# Altium footprint library comm sub.PcbLib: 38 footprints (part 3 of 3)
Each footprint in its own frame and in the unit in brackets; x right, y up, seen from the top. Pads: shape width x height; smd on the part's side, far side on the other; paste and mask are expansions set on the pad; w line width, h text height; cw(c..) or ccw(c..) is an arc to the next point about the centre after c.
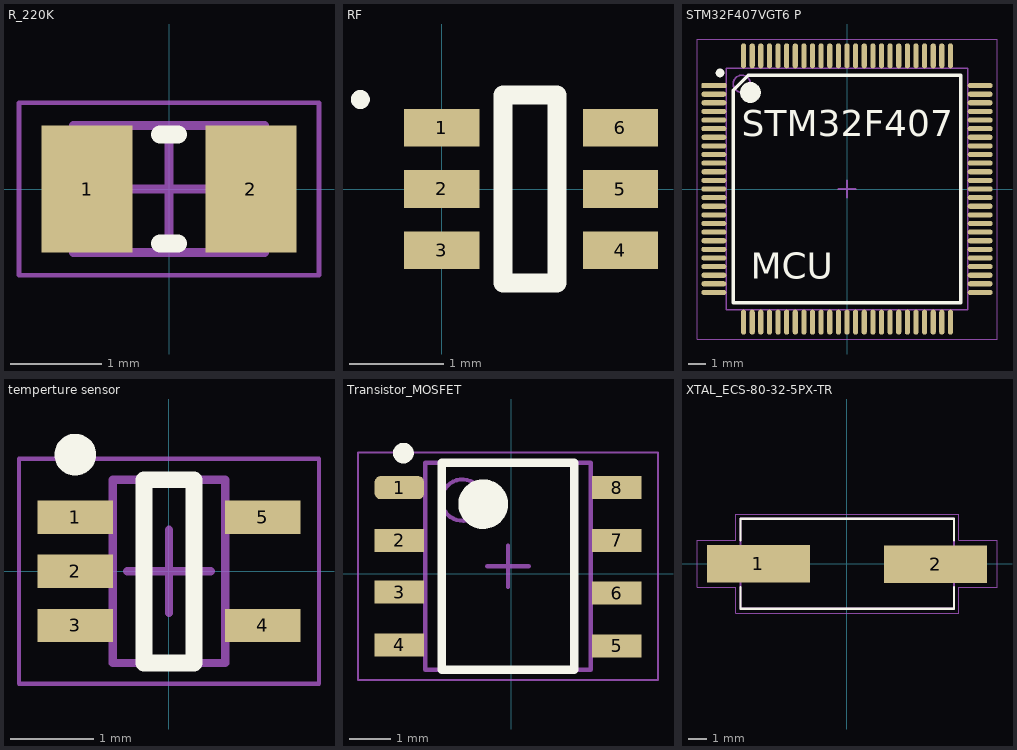
[diagram p2: the footprints below, top view; thin cyan lines are the x and y axes]

## R_220K [mm]
height 0.5
pads (2):
  rect 1x1.4 smd: 1(-0.9,0) 2(0.9,0)
Top Overlay:
  lines w0.2: -0.1,-0.6 0.1,-0.6 ; -0.1,0.6 0.1,0.6
Assembly Top:
  lines w0.1: -1.05,-0.7 1.05,-0.7 1.05,0.7 -1.05,0.7 -1.05,-0.7
Courtyard Top:
  lines w0.05: -1.65,-0.95 1.65,-0.95 1.65,0.95 -1.65,0.95 -1.65,-0.95
  lines w0.1: -0.5,0 0.5,0 ; 0,-0.5 0,0.5
3D body: height 0.5, standoff 0, extent 0.7,-0.7 1.05,0.7
3D body: height 0.5, standoff 0, extent -1.05,-0.7 -0.7,0.7
3D body: height 0.5, standoff 0, extent -0.7,-0.7 0.7,0.7

## RF [mm]
pads (6):
  rect 0.8x0.4 smd: 1(0,0.65) 2(0,0) 3(0,-0.65) 4(1.9,-0.65) 5(1.9,0) 6(1.9,0.65)
Top Overlay:
  circle w0.15: c-0.866,0.952 r0.025
  lines w0.2: 0.65,-1 1.225,-1 1.225,1 0.65,1 0.65,-1
3D body "User Library-SW3dPS-SOT363.STEP": height 1, standoff 0.01, extent -0.108,-0.987 1.992,1.013

## STM32F407VGT6 P [mm] "TSQFP, 100-Leads, Body 14.00x14.00mm, Pitch 0.50mm, IPC Medium Density"
height 1.6
pads (100):
  rrect50% 1.45x0.3 smd mask+0.045: 1(-7.725,6)
  oval 1.45x0.3 smd mask+0.045: 2(-7.725,5.5) 3(-7.725,5) 4(-7.725,4.5) 5(-7.725,4) 6(-7.725,3.5) 7(-7.725,3) 8(-7.725,2.5) 9(-7.725,2) 10(-7.725,1.5) 11(-7.725,1) 12(-7.725,0.5) 13(-7.725,0) 14(-7.725,-0.5) 15(-7.725,-1) 16(-7.725,-1.5) 17(-7.725,-2) 18(-7.725,-2.5) 19(-7.725,-3) 20(-7.725,-3.5) 21(-7.725,-4) 22(-7.725,-4.5) 23(-7.725,-5) 24(-7.725,-5.5) 25(-7.725,-6) 51(7.725,-6) 52(7.725,-5.5) 53(7.725,-5) 54(7.725,-4.5) 55(7.725,-4) 56(7.725,-3.5) 57(7.725,-3) 58(7.725,-2.5) 59(7.725,-2) 60(7.725,-1.5) 61(7.725,-1) 62(7.725,-0.5) 63(7.725,0) 64(7.725,0.5) 65(7.725,1) 66(7.725,1.5) 67(7.725,2) 68(7.725,2.5) 69(7.725,3) 70(7.725,3.5) 71(7.725,4) 72(7.725,4.5) 73(7.725,5) 74(7.725,5.5) 75(7.725,6)
  oval 0.3x1.45 smd mask+0.045: 26(-6,-7.725) 27(-5.5,-7.725) 28(-5,-7.725) 29(-4.5,-7.725) 30(-4,-7.725) 31(-3.5,-7.725) 32(-3,-7.725) 33(-2.5,-7.725) 34(-2,-7.725) 35(-1.5,-7.725) 36(-1,-7.725) 37(-0.5,-7.725) 38(0,-7.725) 39(0.5,-7.725) 40(1,-7.725) 41(1.5,-7.725) 42(2,-7.725) 43(2.5,-7.725) 44(3,-7.725) 45(3.5,-7.725) 46(4,-7.725) 47(4.5,-7.725) 48(5,-7.725) 49(5.5,-7.725) 50(6,-7.725) 76(6,7.725) 77(5.5,7.725) 78(5,7.725) 79(4.5,7.725) 80(4,7.725) 81(3.5,7.725) 82(3,7.725) 83(2.5,7.725) 84(2,7.725) 85(1.5,7.725) 86(1,7.725) 87(0.5,7.725) 88(0,7.725) 89(-0.5,7.725) 90(-1,7.725) 91(-1.5,7.725) 92(-2,7.725) 93(-2.5,7.725) 94(-3,7.725) 95(-3.5,7.725) 96(-4,7.725) 97(-4.5,7.725) 98(-5,7.725) 99(-5.5,7.725) 100(-6,7.725)
Top Overlay:
  circle w0.25: c-7.366,6.731 r0.125
  circle w0.6: c-5.6,5.6 r0.3
  lines w0.2: -6.6,-6.6 6.6,-6.6 6.6,6.6 -5.719,6.6 -6.6,5.719 -6.6,-6.6
  text "MCU" at -5.588,-5.207 h1.52
  text "STM32F407" at -6.096,3.048 h1.52
Mechanical 1:
  lines w0.1: -7,-7 -7,7 7,7 7,-7 -7,-7
Assembly Top:
  circle w0.1: c-6.1,6.1 r0.5
Courtyard Top:
  lines w0.05: -8.7,-8.7 -8.7,8.7 8.7,8.7 8.7,-8.7 -8.7,-8.7
  lines w0.1: -0.5,0 0.5,0 ; 0,-0.5 0,0.5
3D body "STM32F407VGT6.stp": height 1.6, standoff 0, extent -8,-8 8,8

## temperture sensor [mm] "SOT23, 5-Leads, Body 2.00x2.10mm, Pitch 0.65mm, IPC Medium Density"
height 1.1
pads (5):
  rect 0.9x0.4 smd: 1(-1.125,0.65) 2(-1.125,0) 3(-1.125,-0.65) 4(1.125,-0.65) 5(1.125,0.65)
Top Overlay:
  circle w0.25: c-1.125,1.4 r0.125
  lines w0.2: -0.3,-1.1 0.3,-1.1 0.3,1.1 -0.3,1.1 -0.3,-1.1
Assembly Top:
  lines w0.1: -0.675,-1.1 -0.675,1.1 0.675,1.1 0.675,-1.1 -0.675,-1.1
Courtyard Top:
  lines w0.05: -1.8,-1.35 -1.8,1.35 1.8,1.35 1.8,-1.35 -1.8,-1.35
  lines w0.1: -0.5,0 0.5,0 ; 0,-0.5 0,0.5
3D body "SOT323-5L_STM.step": height 1.09, standoff 0, extent -1.194,-1.105 1.194,1.105

## Transistor_MOSFET [mm] "SOIC, 8-Leads, Body 4.90x3.90mm, Pitch 1.27mm, IPC Medium Density"
height 1.5
pads (8):
  rrect50% 1.194x0.559 smd: 1(-2.7,2.075)
  rect 1.194x0.559 smd: 2(-2.7,0.8) 3(-2.7,-0.45) 4(-2.7,-1.725) 5(2.55,-1.75) 6(2.55,-0.475) 7(2.55,0.8) 8(2.55,2.075)
Top Overlay:
  circle w0.25: c-2.602,2.91 r0.125
  circle w0.6: c-0.675,1.675 r0.3
  lines w0.2: -1.675,-2.325 -1.675,2.675 1.525,2.675 1.525,-2.325 -1.675,-2.325
Assembly Top:
  circle w0.1: c-1.175,1.775 r0.5
  lines w0.1: -2.075,-2.325 -2.075,2.675 1.925,2.675 1.925,-2.325 -2.075,-2.325
Courtyard Top:
  lines w0.05: -3.7,-2.575 -3.7,2.925 3.55,2.925 3.55,-2.575 -3.7,-2.575
  lines w0.1: -0.575,0.175 0.425,0.175 ; -0.075,-0.325 -0.075,0.675
3D body "SI4838BDY-T1-GE3.STEP": height 1.75, standoff 0, extent -3.076,-2.309 2.924,2.591

## XTAL_ECS-80-32-5PX-TR [mm]
pads (2):
  rect 5.5x2 smd: 1(-4.724,0) 2(4.75,-0.025)
Top Overlay:
  lines w0.127: -5.675,-1.254 -5.675,-2.4 5.725,-2.4 5.725,-1.254 ; -5.675,1.254 -5.675,2.4 5.725,2.4 5.725,1.254
Mechanical 13:
  lines w0.127: -5.675,-2.4 -5.675,2.4 5.725,2.4 5.725,-2.4 -5.675,-2.4
Mechanical 15:
  lines w0.05: -8,-1.25 -5.925,-1.25 -5.925,-2.65 5.975,-2.65 5.975,-1.25 8.025,-1.25 8.025,0.625 8.025,1.25 5.975,1.25 5.975,2.65 -5.925,2.65 -5.925,1.25 -8,1.25 -8,-1.25
3D body "ECS-80-32-5PX-TR.STEP": height 4.3, standoff 0, extent -6.702,-2.415 6.498,2.385